# Altium schematic symbol library IRS2004STRPBF.SchLib: 1 symbol
Pins are listed as number, name and electrical type; pins without a type are passive.

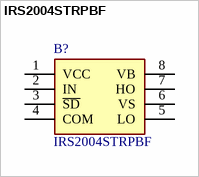
[diagram p0: symbol IRS2004STRPBF]

## IRS2004STRPBF
designator B?
Infineon IRS2004STRPBF Dual Half Bridge MOSFET Power Driver, 10  20 V, Non-Inverting, SOIC 8-Pin; Geometry.Height: 1.75mm; Farnell Part Number: *; Farnell Price/Stock: *; Manufacturer_Name: Infineon; Manufacturer_Part_Number: IRS2004STRPBF; Datasheet Link: https://www.infineon.com/cms/en/product/power/gate-driver-ics/?
footprint SOIC127P600X175-8N
pins: 1 VCC, 2 IN, 3 ~{SD}, 4 COM, 5 LO, 6 VS, 7 HO, 8 VB